# Altium schematic symbol library Schlib2.SchLib: 1 symbol
Pins are listed as number, name and electrical type; pins without a type are passive.

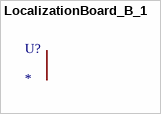
[diagram p0: symbol LocalizationBoard_B_1]

## LocalizationBoard_B_1
designator U?